# Altium schematic symbol library dsub_sch.SchLib: 8 symbols
Pins are listed as number, name and electrical type; pins without a type are passive.

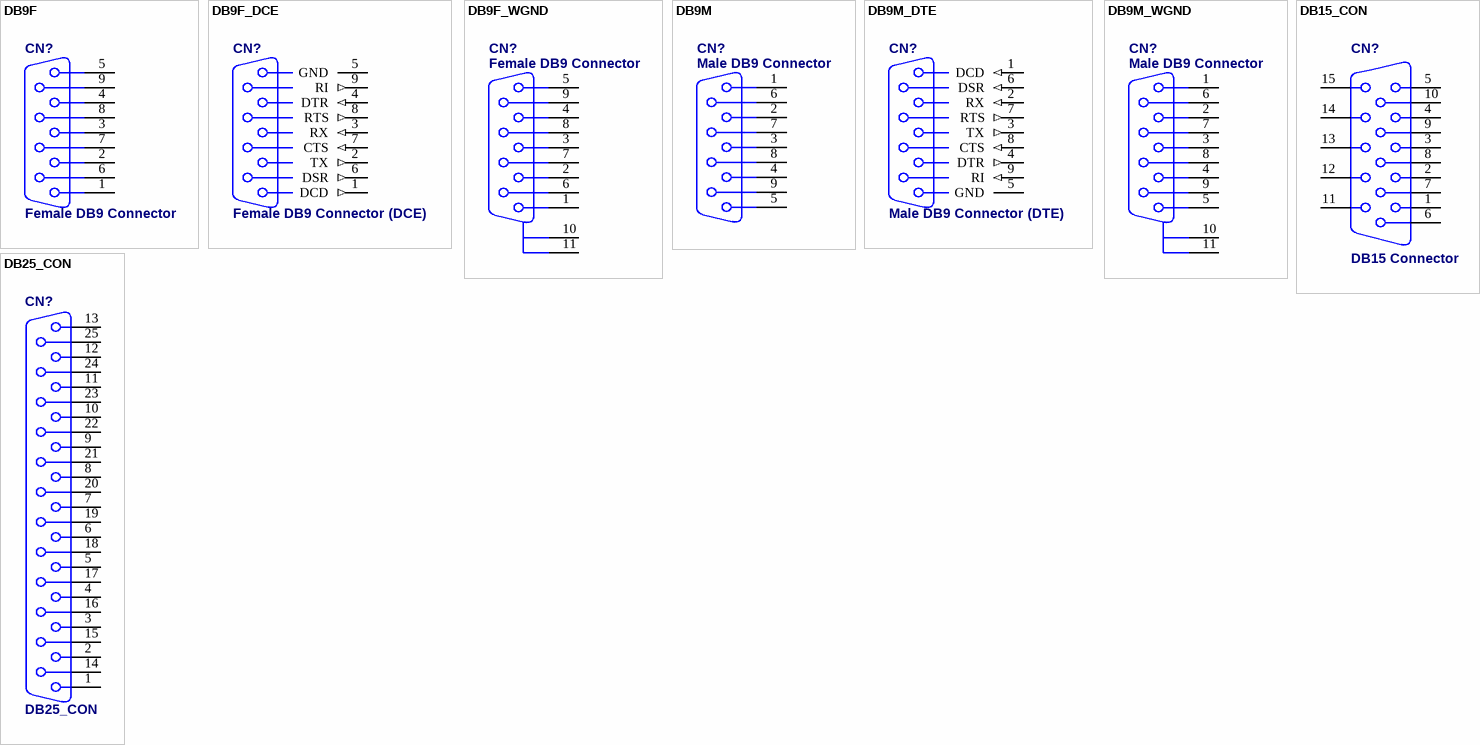
[diagram p0: symbols DB9F to DB25_CON]

## DB9F
designator CN?, comment Female DB9 Connector
footprint DSUB9H-7,2mm-FEMALE
footprint DSUB9H-7,2mm-FEMALE_MANUAL
footprint DSUB9H-9.4mm-FEMALE
footprint DSUB9H_A-7,2mm-FEMALE
footprint DSUB9H_A-7,2mm-FEMALE_MANUAL
footprint DSUB9H_A-9,4mm-FEMALE
pins: 1, 2, 3, 4, 5, 6, 7, 8, 9, 10 MH1 hidden to GND, 11 MH2 hidden to GND

## DB9F_DCE
designator CN?, comment Female DB9 Connector (DCE)
footprint DSUB9H-7,2mm-FEMALE
footprint DSUB9H-7,2mm-FEMALE_MANUAL
footprint DSUB9H-9.4mm-FEMALE
footprint DSUB9H_A-7,2mm-FEMALE
footprint DSUB9H_A-7,2mm-FEMALE_MANUAL
footprint DSUB9H_A-9,4mm-FEMALE
pins: 1 DCD (out), 2 TX (out), 3 RX (in), 4 DTR (in), 5 GND (power), 6 DSR (out), 7 CTS (in), 8 RTS (out), 9 RI (out), 10 MH1 hidden to GND, 11 MH2 hidden to GND
1 alternate drawing of the same symbol

## DB9F_WGND
designator CN?, comment Female DB9 Connector
footprint DSUB9H-7,2mm-FEMALE
footprint DSUB9H-7,2mm-FEMALE_MANUAL
footprint DSUB9H-9.4mm-FEMALE
footprint DSUB9H_A-7,2mm-FEMALE
footprint DSUB9H_A-7,2mm-FEMALE_MANUAL
footprint DSUB9H_A-9,4mm-FEMALE
pins: 1, 2, 3, 4, 5, 6, 7, 8, 9, 10 MH1, 11 MH2

## DB9M
designator CN?, comment Male DB9 Connector
footprint DSUB9H-7,2mm-MALE
footprint DSUB9H-7,2mm-MALE_MANUAL
footprint DSUB9H-9,4mm-MALE
footprint DSUB9H_A-7,2mm-MALE
footprint DSUB9H_A-7,2mm-MALE_MANUAL
footprint DSUB9H_A-9,4mm-MALE
pins: 1, 2, 3, 4, 5, 6, 7, 8, 9, 10 MH1 hidden to GND, 11 MH2 hidden to GND

## DB9M_DTE
designator CN?, comment Male DB9 Connector (DTE)
footprint DSUB9H-7,2mm-MALE
footprint DSUB9H-7,2mm-MALE_MANUAL
footprint DSUB9H-9,4mm-MALE
footprint DSUB9H_A-7,2mm-MALE
footprint DSUB9H_A-7,2mm-MALE_MANUAL
footprint DSUB9H_A-9,4mm-MALE
pins: 1 DCD (in), 2 RX (in), 3 TX (out), 4 DTR (out), 5 GND (power), 6 DSR (in), 7 RTS (out), 8 CTS (in), 9 RI (in), 10 MH1 hidden to GND, 11 MH2 hidden to GND
1 alternate drawing of the same symbol

## DB9M_WGND
designator CN?, comment Male DB9 Connector
footprint DSUB9H-7,2mm-MALE
footprint DSUB9H-7,2mm-MALE_MANUAL
footprint DSUB9H-9,4mm-MALE
footprint DSUB9H_A-7,2mm-MALE
footprint DSUB9H_A-7,2mm-MALE_MANUAL
footprint DSUB9H_A-9,4mm-MALE
pins: 1, 2, 3, 4, 5, 6, 7, 8, 9, 10 MH1, 11 MH2

## DB15_CON
designator CN?, comment DB15 Connector
footprint DSUB15HD-FEMALE
footprint DSUB15HD-MALE
pins: 1, 2, 3, 4, 5, 6, 7, 8, 9, 10, 11, 12, 13, 14, 15

## DB25_CON
designator CN?
DB25 Connector
footprint DSUB25H-7,2mm-FEMAEL
footprint DSUB25H-7,2mm-FEMALE_MANUAL
footprint DSUB25H-7,2mm-MALE_MANUAL
footprint DSUB25H_7,2mm-MALE
footprint DSUB25H_A-7,2mm-FEMAEL
footprint DSUB25H_A-7,2mm-FEMALE_MANUAL
footprint DSUB25H_A-7,2mm-MALE_MANUAL
footprint DSUB25H_A_7,2mm-MALE
footprint DSUB25H_B
pins: 1, 2, 3, 4, 5, 6, 7, 8, 9, 10, 11, 12, 13, 14, 15, 16, 17, 18, 19, 20, 21, 22, 23, 24, 25
1 alternate drawing of the same symbol